# EAGLE library part DIP4 (library custom_parts)
DIP4 switch with 0.050 pitch smd package Farnell: 1605479
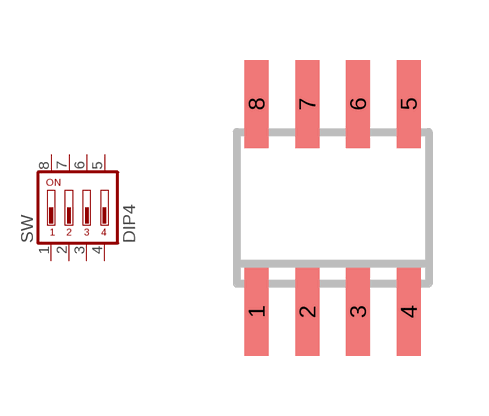
[diagram p21: symbol with the pads of SO08; footprint SO08]

Designator prefix SW

## DIP4  [SO08]
1  1  pas
2  2  pas
3  3  pas
4  4  pas
5  5  pas
6  6  pas
7  7  pas
8  8  pas

## Footprint SO08 (pad centres in mm)
Small Outline Package 8 NS Package M08A
smd 0.6 x 2.2: 1 -1.905,-2.6; 2 -0.635,-2.6; 3 0.635,-2.6; 4 1.905,-2.6; 5 1.905,2.6; 6 0.635,2.6; 7 -0.635,2.6; 8 -1.905,2.6